# Altium schematic symbol library Schlib_Bouffalo_Lab.SchLib: 1 symbol
Pins are listed as number, name and electrical type; pins without a type are passive.

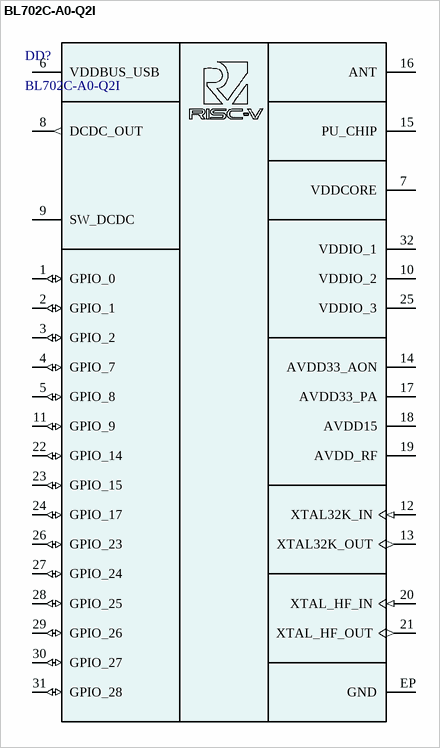
[diagram p0: symbol BL702C-A0-Q2I]

## BL702C-A0-Q2I
designator DD?
RISC-V MCU, 144 MHz Clock, 132KB RAM, 192KB ROM, 1Kb eFuse; Manufacturer: Bouffalo Lab; Part Number: BL702C-A0-Q2I; Package: QFN-32
footprint QFN32-0.4 (QFN, 32-Leads, Body 4,00x4,00mm, Pitch 0,40mm, Thermal Pad 2,80x2,80mm, IPC Medium Density)
pins: 1 GPIO_0 (io), 2 GPIO_1 (io), 3 GPIO_2 (io), 4 GPIO_7 (io), 5 GPIO_8 (io), 6 VDDBUS_USB (power), 7 VDDCORE (power), 8 DCDC_OUT (out), 9 SW_DCDC, 10 VDDIO_2 (power), 11 GPIO_9 (io), 12 XTAL32K_IN (in), 13 XTAL32K_OUT (out), 14 AVDD33_AON (power), 15 PU_CHIP, 16 ANT, 17 AVDD33_PA (power), 18 AVDD15 (power), 19 AVDD_RF (power), 20 XTAL_HF_IN (in), 21 XTAL_HF_OUT (out), 22 GPIO_14 (io), 23 GPIO_15 (io), 24 GPIO_17 (io), 25 VDDIO_3 (power), 26 GPIO_23 (io), 27 GPIO_24 (io), 28 GPIO_25 (io), 29 GPIO_26 (io), 30 GPIO_27 (io), 31 GPIO_28 (io), 32 VDDIO_1 (power), EP GND (power)